# EAGLE library part PPPC072LJBN-RC (library PPPC072LJBN-RC)
HEADER FEMALE, .100" [2.54mm] CC, 2 ROW, RA, positions per row Source: Datasheet <https://drawings-pdf.s3.amazonaws.com/10494.pdf>
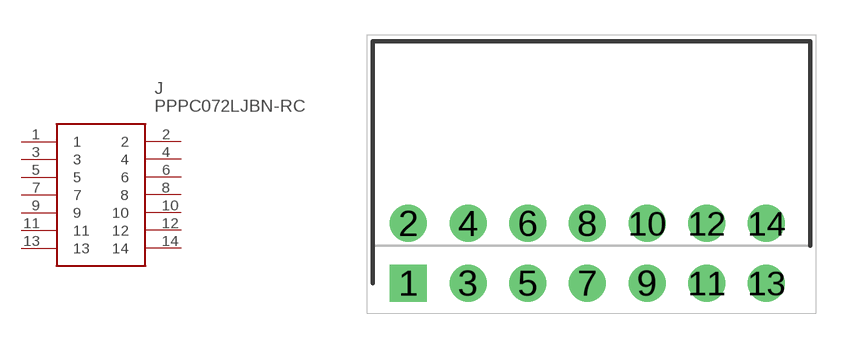
[diagram p0: symbol with the pads of RHDRRA14W60P254X254_2X7_1828X8; footprint RHDRRA14W60P254X254_2X7_1828X8]

Designator prefix J

## PPPC072LJBN-RC (Description: HEADER FEMALE, .100" [2.54mm] CC, 2 ROW, RA, positions per row; Height: 5.28mm; Manufacturer_Name: Sullins; Manufacturer_Part_Number: PPPC072LJBN-RC)  [RHDRRA14W60P254X254_2X7_1828X8]
1  1
2  2
3  3
4  4
5  5
6  6
7  7
8  8
9  9
10  10
11  11
12  12
13  13
14  14

## Footprint RHDRRA14W60P254X254_2X7_1828X8 (pad centres in mm)
PPPC072LJBN-RC-1
drill 1.05 pad 1.575 square: 1 0,0
drill 1.05 pad 1.575: 2 0,2.54; 3 2.54,0; 4 2.54,2.54; 5 5.08,0; 6 5.08,2.54; 7 7.62,0; 8 7.62,2.54; 9 10.16,0; 10 10.16,2.54; 11 12.7,0; 12 12.7,2.54; 13 15.24,0; 14 15.24,2.54